# Altium schematic symbol library L7986TR.SchLib: 1 symbol
Pins are listed as number, name and electrical type; pins without a type are passive.

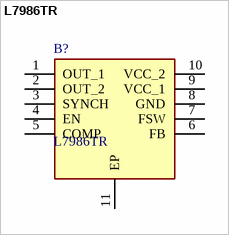
[diagram p0: symbol L7986TR]

## L7986TR
designator B?
STMICROELECTRONICS - L7986TR - DC/DC CONV, BUCK, 250KHZ, VFQFN-10; Geometry.Height: 1mm; Mouser Part Number: 511-L7986TR; Mouser Price/Stock: https://www.mouser.co.uk/ProductDetail/STMicroelectronics/L7986TR?qs=2YQBRVeZizJbRiSxRz10mg%3D%3D; Manufacturer_Name: STMicroelectronics; Manufacturer_Part_Number: L7986TR; Datasheet Link: http://www.st.com/content/ccc/resource/technical/document/datasheet/f4/de/ae/ae/a3/9b/40/d9/DM00041568.pdf/files/DM00041568.pdf/jcr:content/translations/en.DM00041568.pdf
footprint SON50P300X300X100-11N-D
pins: 1 OUT_1, 2 OUT_2, 3 SYNCH, 4 EN, 5 COMP, 6 FB, 7 FSW, 8 GND, 9 VCC_1, 10 VCC_2, 11 EP